# EAGLE library part STM32F051K8T6 (library microcontrollers)
STM32F051K8T6 ARM CortexM-0 MCU, 16 to 64-KB Flash, timers, ADC, DAC and communication interfaces, 2.0-3.6 V PatternAgents ST Microelectronics Component Library Source LBR : http://www.patternagents.com Github : https://github.com/patternagents License : http://creativecommons.org/licenses/by-sa/4.0/ (Creative Commons 4.0) THIS SOFTWARE IS PROVIDED BY THE CONTRIBUTORS "AS IS" AND WITHOUT ANY EXPRESS OR IMPLIED WARRANTIES, INCLUDING, BUT NOT LIMITED TO, THE IMPLIED WARRANTIES OF MERCHANTABILITY AND FITNESS FOR A PARTICULAR PURPOSE ARE DISCLAIMED. IN NO EVENT SHALL THE COPYRIGHT OWNER OR CONTRIBUTORS BE LIABLE FOR ANY DIRECT, INDIRECT, INCIDENTAL, SPECIAL, EXEMPLARY, OR CONSEQUENTIAL DAMAGES (INCLUDING, BUT NOT LIMITED TO, PROCUREMENT OF SUBSTITUTE GOODS OR SERVICES; LOSS OF USE, DATA, OR PROFITS; OR BUSINESS INTERRUPTION) HOWEVER CAUSED AND ON ANY THEORY OF LIABILITY, WHETHER IN CONTRACT, STRICT LIABILITY, OR TORT (INCLUDING NEGLIGENCE OR OTHERWISE) ARISING IN ANY WAY OUT OF THE USE OF THIS SOFTWARE, EVEN IF ADVISED OF THE POSSIBILITY OF SUCH DAMAGE.
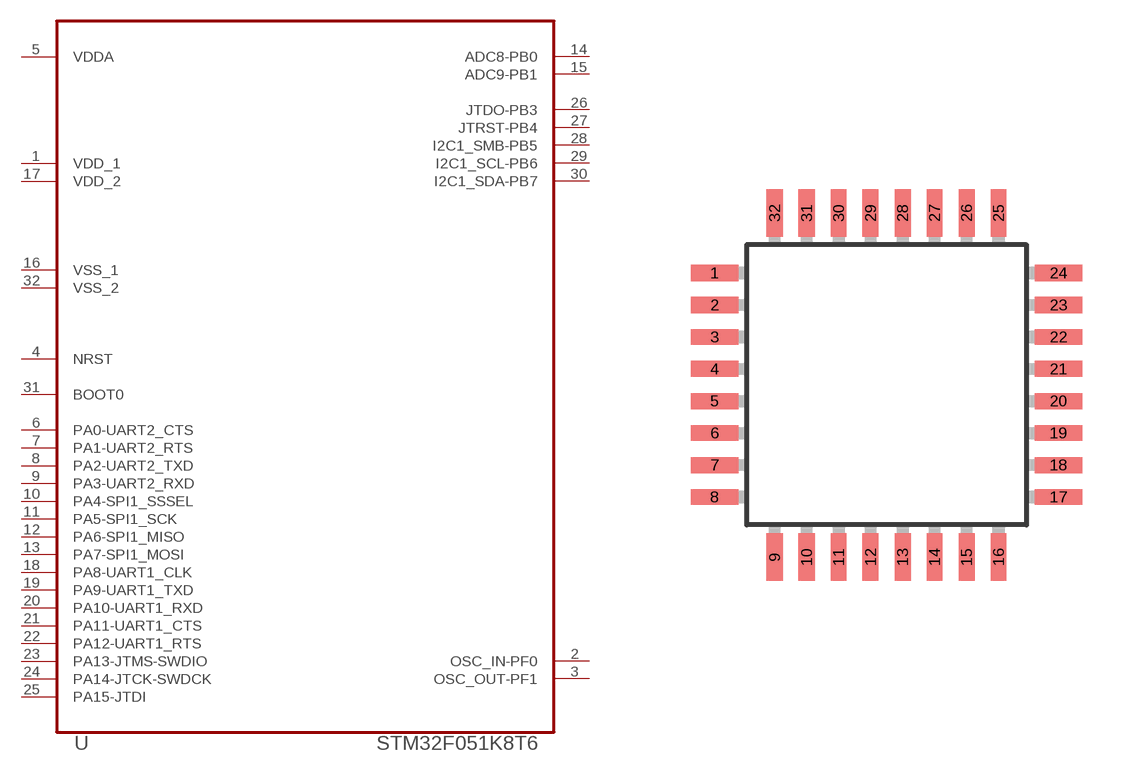
[diagram p3: symbol with the pads of LQFP32-7X7; footprint LQFP32-7X7]

Designator prefix -

## STM32F051K8T6  [LQFP32-7X7]
1  VDD_1  pwr
2  OSC_IN-PF0
3  OSC_OUT-PF1
4  NRST
5  VDDA  pwr
6  PA0-UART2_CTS
7  PA1-UART2_RTS
8  PA2-UART2_TXD
9  PA3-UART2_RXD
10  PA4-SPI1_SSSEL
11  PA5-SPI1_SCK
12  PA6-SPI1_MISO
13  PA7-SPI1_MOSI
14  ADC8-PB0
15  ADC9-PB1
16  VSS_1  pas
17  VDD_2  pwr
18  PA8-UART1_CLK
19  PA9-UART1_TXD
20  PA10-UART1_RXD
21  PA11-UART1_CTS
22  PA12-UART1_RTS
23  PA13-JTMS-SWDIO
24  PA14-JTCK-SWDCK
25  PA15-JTDI
26  JTDO-PB3
27  JTRST-PB4
28  I2C1_SMB-PB5
29  I2C1_SCL-PB6
30  I2C1_SDA-PB7
31  BOOT0  in
32  VSS_2  pas

## Footprint LQFP32-7X7 (pad centres in mm)
PatternAgents ST Microelectronics Component Library LQFP-32 package, 7x7 mm case, 0.8 mm lead pitch Sourced: Data sheet <http://www.st.com/stonline/products/literature/ds/14771/stm8s105c4.pdf> Source LBR : http://www.patternagents.com Github : https://github.com/patternagents License : http://creativecommons.org/licenses/by-sa/4.0/ (Creative Commons 4.0) THIS SOFTWARE IS PROVIDED BY THE CONTRIBUTORS "AS IS" AND WITHOUT ANY EXPRESS OR IMPLIED WARRANTIES, INCLUDING, BUT NOT LIMITED TO, THE IMPLIED WARRANTIES OF MERCHANTABILITY AND FITNESS FOR A PARTICULAR PURPOSE ARE DISCLAIMED. IN NO EVENT SHALL THE COPYRIGHT OWNER OR CONTRIBUTORS BE LIABLE FOR ANY DIRECT, INDIRECT, INCIDENTAL, SPECIAL, EXEMPLARY, OR CONSEQUENTIAL DAMAGES (INCLUDING, BUT NOT LIMITED TO, PROCUREMENT OF SUBSTITUTE GOODS OR SERVICES; LOSS OF USE, DATA, OR PROFITS; OR BUSINESS INTERRUPTION) HOWEVER CAUSED AND ON ANY THEORY OF LIABILITY, WHETHER IN CONTRACT, STRICT LIABILITY, OR TORT (INCLUDING NEGLIGENCE OR OTHERWISE) ARISING IN ANY WAY OUT OF THE USE OF THIS SOFTWARE, EVEN IF ADVISED OF THE POSSIBILITY OF SUCH DAMAGE.
smd 1.2 x 0.4: 1 -4.3,2.8; 2 -4.3,2; 3 -4.3,1.2; 4 -4.3,0.4; 5 -4.3,-0.4; 6 -4.3,-1.2; 7 -4.3,-2; 8 -4.3,-2.8; 17 4.3,-2.8; 18 4.3,-2; 19 4.3,-1.2; 20 4.3,-0.4; 21 4.3,0.4; 22 4.3,1.2; 23 4.3,2; 24 4.3,2.8
smd 0.4 x 1.2: 9 -2.8,-4.3; 10 -2,-4.3; 11 -1.2,-4.3; 12 -0.4,-4.3; 13 0.4,-4.3; 14 1.2,-4.3; 15 2,-4.3; 16 2.8,-4.3; 25 2.8,4.3; 26 2,4.3; 27 1.2,4.3; 28 0.4,4.3; 29 -0.4,4.3; 30 -1.2,4.3; 31 -2,4.3; 32 -2.8,4.3